# Altium integrated library ESP32_NODEMCU.IntLib: 1 symbol
Pins are listed as number, name and electrical type; pins without a type are passive.

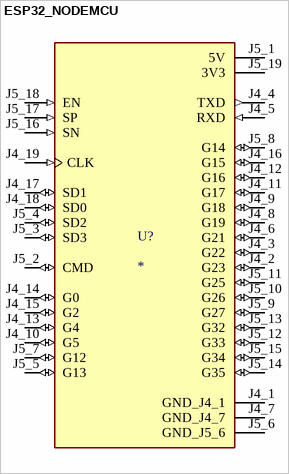
[diagram p0: symbol ESP32_NODEMCU]

## ESP32_NODEMCU
designator U?
NodeMCU is an open source loT platform. ESP32 is a series of low cost, low powersystem-on-chip (SoC) microcontrollers with integrated Wi-Fi & dual-mode Bluetooth.; MP: ESP32 NodeMCU; MF: Espressif Systems; Package: Package; SnapEDA_Link: https://www.snapeda.com/parts/ESP32%20NodeMCU/Espressif+Systems/view-part/?ref=snap; Availability: Not in stock; Value: *; Check_prices: https://www.snapeda.com/parts/ESP32%20NodeMCU/Espressif+Systems/view-part/?ref=eda; Price: None
footprint MODULE_ESP32_NODEMCU
pins: J4_1 GND_J4_1 (power), J4_2 G23 (io), J4_3 G22 (io), J4_4 TXD (out), J4_5 RXD (in), J4_6 G21 (io), J4_7 GND_J4_7 (power), J4_8 G19 (io), J4_9 G18 (io), J4_10 G5 (io), J4_11 G17 (io), J4_12 G16 (io), J4_13 G4 (io), J4_14 G0 (io), J4_15 G2 (io), J4_16 G15 (io), J4_17 SD1 (io), J4_18 SD0 (io), J4_19 CLK (in), J5_1 5V (power), J5_2 CMD (io), J5_3 SD3 (io), J5_4 SD2 (io), J5_5 G13 (io), J5_6 GND_J5_6 (power), J5_7 G12 (io), J5_8 G14 (io), J5_9 G27 (io), J5_10 G26 (io), J5_11 G25 (io), J5_12 G33 (io), J5_13 G32 (io), J5_14 G35 (io), J5_15 G34 (io), J5_16 SN (in), J5_17 SP (in), J5_18 EN (in), J5_19 3V3 (power)